# EAGLE library part MA12-2 (library con-lstb)
PIN HEADER
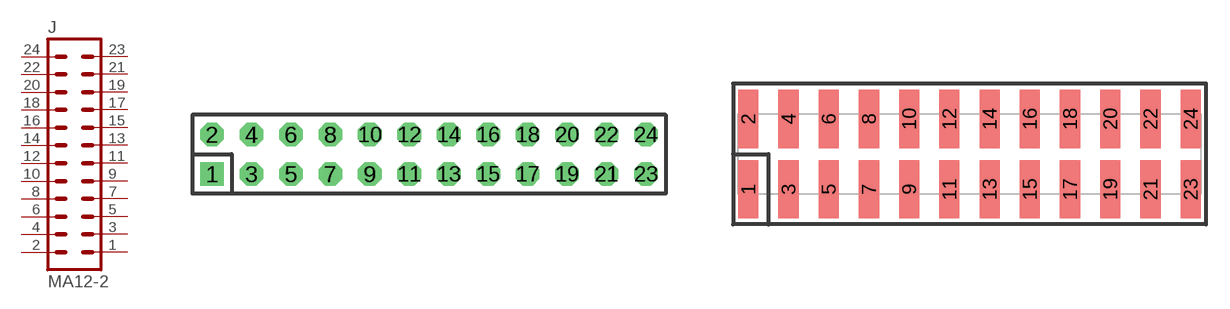
[diagram p20: symbol with the pads of MA12-2; footprints MA12-2, SMD-MA12-2]

Designator prefix J

## MA12-2  [MA12-2]
1  1  pas
2  2  pas
3  3  pas
4  4  pas
5  5  pas
6  6  pas
7  7  pas
8  8  pas
9  9  pas
10  10  pas
11  11  pas
12  12  pas
13  13  pas
14  14  pas
15  15  pas
16  16  pas
17  17  pas
18  18  pas
19  19  pas
20  20  pas
21  21  pas
22  22  pas
23  23  pas
24  24  pas

## MA12-2SMD  [SMD-MA12-2]
Pads as for MA12-2

## Footprint MA12-2 (pad centres in mm)
PIN HEADER
drill 1.016 square: 1 -13.97,-1.27
drill 1.016 octagon: 2 -13.97,1.27; 3 -11.43,-1.27; 4 -11.43,1.27; 5 -8.89,-1.27; 6 -8.89,1.27; 7 -6.35,-1.27; 8 -6.35,1.27; 9 -3.81,-1.27; 10 -3.81,1.27; 11 -1.27,-1.27; 12 -1.27,1.27; 13 1.27,-1.27; 14 1.27,1.27; 15 3.81,-1.27; 16 3.81,1.27; 17 6.35,-1.27; 18 6.35,1.27; 19 8.89,-1.27; 20 8.89,1.27; 21 11.43,-1.27; 22 11.43,1.27; 23 13.97,-1.27; 24 13.97,1.27

## Footprint SMD-MA12-2 (pad centres in mm)
SMD Dual Row, Vertical - 0.1" Sullins, G XCXXDABN-M30 Series
smd 1.27 x 3.68: 1 -13.97,-2.223; 2 -13.97,2.223; 3 -11.43,-2.223; 4 -11.43,2.223; 5 -8.89,-2.223; 6 -8.89,2.223; 7 -6.35,-2.223; 8 -6.35,2.223; 9 -3.81,-2.223; 10 -3.81,2.223; 11 -1.27,-2.223; 12 -1.27,2.223; 13 1.27,-2.223; 14 1.27,2.223; 15 3.81,-2.223; 16 3.81,2.223; 17 6.35,-2.223; 18 6.35,2.223; 19 8.89,-2.223; 20 8.89,2.223; 21 11.43,-2.223; 22 11.43,2.223; 23 13.97,-2.223; 24 13.97,2.223